# Altium footprint library 1825AC472KAT1A.PcbLib: 2 footprints
Each footprint in its own frame and in the unit in brackets; x right, y up, seen from the top. Pads: shape width x height; smd on the part's side, far side on the other; paste and mask are expansions set on the pad; w line width, h text height; cw(c..) or ccw(c..) is an arc to the next point about the centre after c.
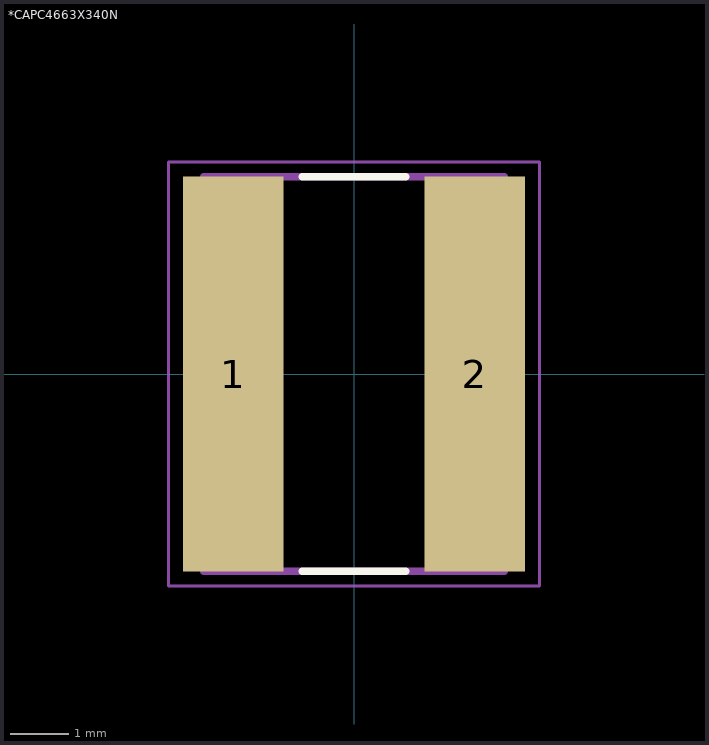
[diagram p0: the footprints below, top view; thin cyan lines are the x and y axes]

## *CAPC4663X340N [mm]
pads (2):
  rect 1.71x6.71 smd: 1(-2.05,0) 2(2.05,0)
Top Overlay:
  lines w0.127: -0.88,-3.35 0.88,-3.35 ; -0.88,3.35 0.88,3.35
Mechanical 4:
  lines w0.127: -2.55,-3.35 -2.55,3.35 ; -2.55,-3.35 2.55,-3.35 ; -2.55,-3.35 -2.55,3.35 ; -2.55,-3.35 2.55,-3.35 ; -2.55,3.35 2.55,3.35 ; -2.55,3.35 2.55,3.35 ; 2.55,-3.35 2.55,3.35 ; 2.55,-3.35 2.55,3.35
Mechanical 16:
  lines w0.05: -3.153,-3.6 -3.153,3.6 3.153,3.6 3.153,-3.6 -3.153,-3.6

## PCBComponent_1 [mm]